# EAGLE library part 618015330923 (library Wurth_Elektronik_Electromechanic_Input-Output_Connectors_rev16a)
WR-DSUB Female High Density Angled PCB Connector with Hex Screw, 15 Pins=>Code : Con_I-O_DSUB_PCB_Female_w-screw_618015330923 <http://katalog.we-online.de/media/images/eican/Con_I-O_DSUB_PCB_Female_w-screw_6180xx330923_pf2.jpg> Details see: http://katalog.we-online.de/en/em/618_0xx_330_923 Created 2014-07-10, Karrer Zheng 2014 (C) Würth Elektronik
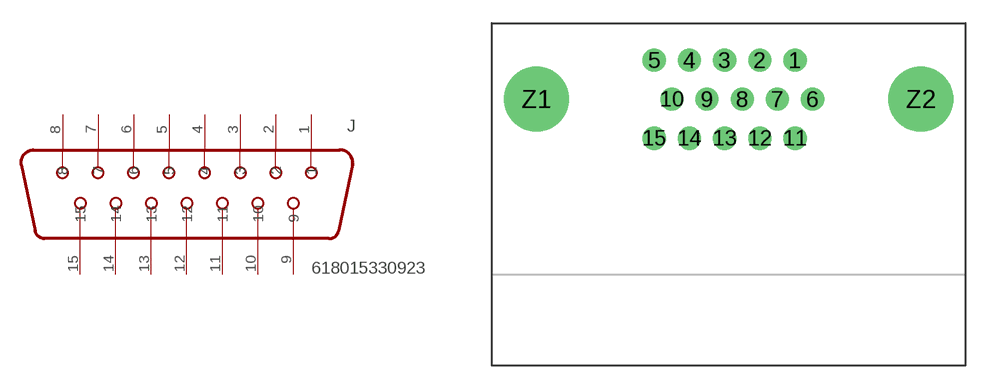
[diagram p56: symbol with the pads of 618015330923; footprint 618015330923]

Designator prefix J

## 618015330923  [618015330923]
1  1
2  2
3  3
4  4
5  5
6  6
7  7
8  8
9  9
10  10
11  11
12  12
13  13
14  14
15  15

## Footprint 618015330923 (pad centres in mm)
WR-DSUB Female High Density Angled PCB Connector with Hex Screw, 15 Pins
drill 1: 1 4.32,2.54; 2 2.03,2.54; 3 -0.26,2.54; 4 -2.55,2.54; 5 -4.84,2.54; 6 5.465,0; 7 3.175,0; 8 0.885,0; 9 -1.405,0; 10 -3.695,0; 11 4.32,-2.54; 12 2.03,-2.54; 13 -0.26,-2.54; 14 -2.55,-2.54; 15 -4.84,-2.54
drill 3.2: Z1 -12.5,0; Z2 12.5,0